# Altium footprint library PcbLib_Motorsturing.PcbLib: 9 footprints
Each footprint in its own frame and in the unit in brackets; x right, y up, seen from the top. Pads: shape width x height; smd on the part's side, far side on the other; paste and mask are expansions set on the pad; w line width, h text height; cw(c..) or ccw(c..) is an arc to the next point about the centre after c.
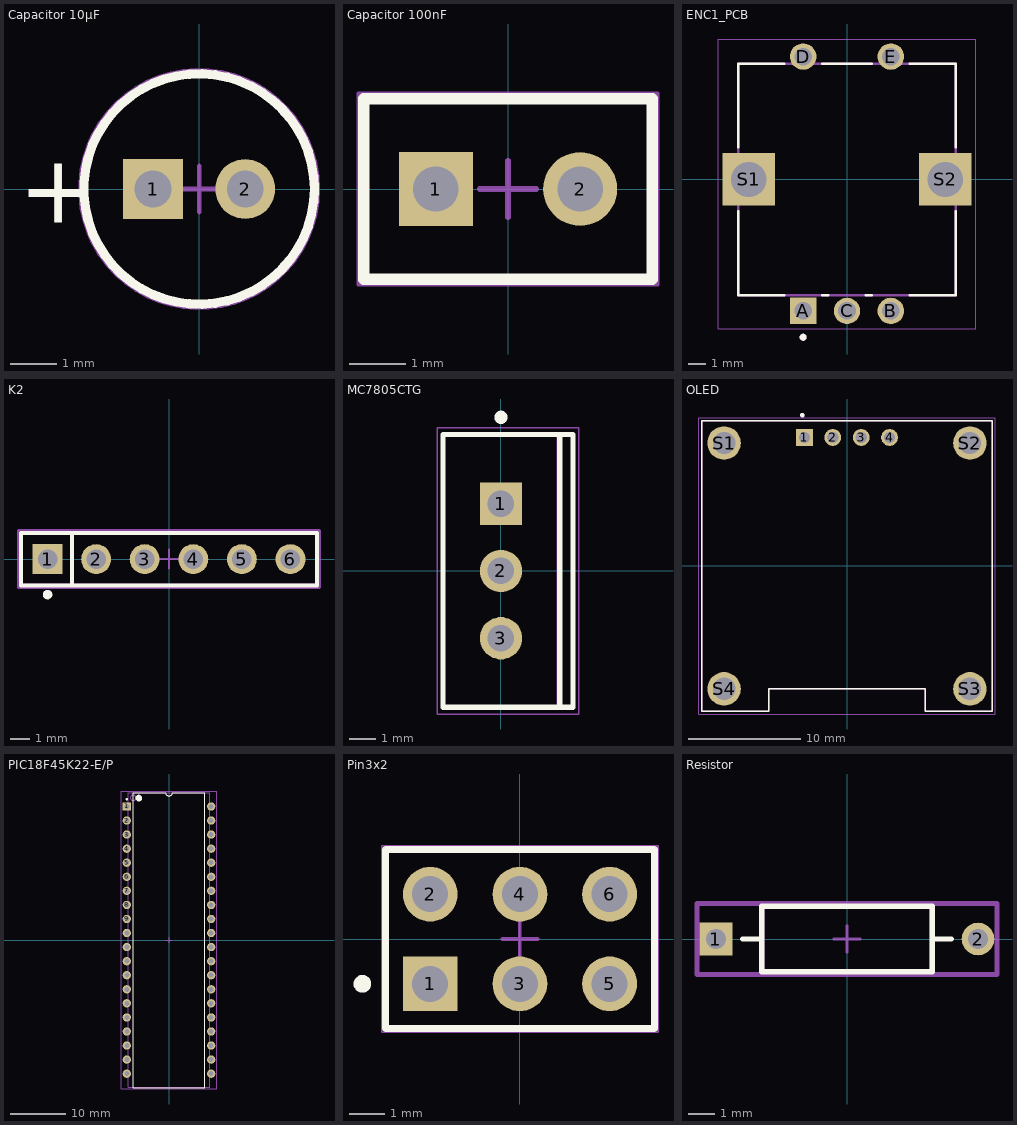
[diagram p0: the footprints below, top view; thin cyan lines are the x and y axes]

## Capacitor 10µF [mm] "THD, 2-Leads, Dia 5mm, Body Length 11mm"
height 12
pads (2):
  rect 1.3x1.3 hole 0.8: 1(-1,0)
  round 1.3 hole 0.8: 2(1,0)
Top Overlay:
  circle w0.2: c0,0 r2.5
  text "+" at -3.908,-0.737 h1.5
Mechanical 13:
  circle w0.1: c0,0 r2.5
Mechanical 15:
  circle w0.05: c0,0 r2.6
  lines w0.1: -0.5,0 0.5,0 ; 0,-0.5 0,0.5
3D body: height 12, standoff 0, extent -2.499,-2.499 2.499,2.499

## Capacitor 100nF [mm] "THD, 2-Leads, Body 5.08x3.18mm"
height 7.36
pads (2):
  rect 1.3x1.3 hole 0.8: 1(-1.27,0)
  round 1.3 hole 0.8: 2(1.27,0)
Top Overlay:
  lines w0.2: -2.54,-1.59 -2.54,1.59 2.54,1.59 2.54,-1.59 -2.54,-1.59
Mechanical 13:
  lines w0.1: -2.54,-1.59 2.54,-1.59 2.54,1.59 -2.54,1.59 -2.54,-1.59
Mechanical 15:
  lines w0.05: -2.64,-1.69 -2.64,1.69 2.64,1.69 2.64,-1.69 -2.64,-1.69
  lines w0.1: -0.5,0 0.5,0 ; 0,-0.5 0,0.5
3D body: height 7.36, standoff 0, extent -2.54,-1.59 2.54,1.59
3D body: height 6, standoff -1, extent -1.567,-0.299 -0.97,0.3
3D body: height 6, standoff -1, extent 0.973,-0.299 1.57,0.3

## ENC1_PCB [mm]
pads (7):
  rect 1.508x1.508 hole 1: A(-2.5,-7.5)
  round 1.508 hole 1: B(2.5,-7.5) C(0,-7.5) D(-2.5,7) E(2.5,7)
  rect 3x3 hole 2: S1(-5.6,0) S2(5.6,0)
Top Overlay:
  circle w0.2: c-2.5,-9 r0.1
  lines w0.127: -6.2,-1.82 -6.2,-6.6 -3.575,-6.6 ; -6.2,1.82 -6.2,6.6 -3.575,6.6 ; -1.425,-6.6 -1.075,-6.6 ; -1.425,6.6 1.425,6.6 ; 1.075,-6.6 1.425,-6.6 ; 3.575,-6.6 6.2,-6.6 6.2,-1.82 ; 3.575,6.6 6.2,6.6 6.2,1.82
Mechanical 1:
  lines w0: -6.6,-1.05 -4.6,-1.05 -4.6,1.05 -6.6,1.05 -6.6,-1.05 ; 4.6,-1.05 6.6,-1.05 6.6,1.05 4.6,1.05 4.6,-1.05
Mechanical 13:
  circle w0.2: c-2.5,-9 r0.1
  lines w0.127: -6.2,-6.6 6.2,-6.6 6.2,6.6 -6.2,6.6 -6.2,-6.6
Mechanical 15:
  lines w0.05: -7.35,-8.505 7.35,-8.505 7.35,8.005 -7.35,8.005 -7.35,-8.505

## K2 [mm]
pads (6):
  rect 1.57x1.57 hole 1.02 paste-2539.97 mask+0: 1(-6.35,0)
  round 1.57 hole 1.02 paste-2539.97 mask+0: 2(-3.81,0) 3(-1.27,0) 4(1.27,0) 5(3.81,0) 6(6.35,0)
Top Overlay:
  circle w0.25: c-6.35,-1.85 r0.125
  lines w0.2: -5.08,-1.37 -5.08,1.37 ; -7.745,-1.37 7.745,-1.37 7.745,1.37 -7.745,1.37 -7.745,-1.37
Top 3D Body:
  lines w0.2: -7.745,-1.37 7.745,-1.37 7.745,1.37 -7.745,1.37 -7.745,-1.37
Top Courtyard:
  lines w0.2: -7.845,-1.47 7.845,-1.47 7.845,1.47 -7.845,1.47 -7.845,-1.47
Top Assembly:
  lines w0.2: -7.845,-1.47 7.845,-1.47 7.845,1.47 -7.845,1.47 -7.845,-1.47
  text ".Designator" at 0,-0.001 h1
Top Component Center:
  lines w0.1: -0.5,0 0.5,0 ; 0,-0.5 0,0.5
3D body "Conn_Molex_22-28-4063_eec.STEP": height 0.25, standoff 0, extent -7.845,-1.47 7.845,1.47

## MC7805CTG [mm] "FM, 3-Leads, Body 10.3x4.85mm, Pitch 2.54mm"
height 19.68
pads (3):
  rect 1.6x1.6 hole 1: 1(0,2.54)
  round 1.6 hole 1: 2(0,0) 3(0,-2.54)
Top Overlay:
  circle w0.25: c0,5.8 r0.125
  lines w0.2: 2.215,-5.15 2.215,5.15 ; -2.185,-5.15 -2.185,5.15 2.715,5.15 2.715,-5.15 -2.185,-5.15
Mechanical 13:
  lines w0.1: 2.14,-5.15 2.14,5.15 ; -2.16,-5.15 2.69,-5.15 2.69,5.15 -2.16,5.15 -2.16,-5.15
Mechanical 15:
  lines w0.05: -2.41,-5.4 2.94,-5.4 2.94,5.4 -2.41,5.4 -2.41,-5.4
  lines w0.1: -0.5,0 0.5,0 ; 0,-0.5 0,0.5
3D body: height 19.68, standoff 18.71, extent 2.14,-4.975 2.69,4.975
3D body: height 17.24, standoff 16.88, extent 2.14,-4.975 2.69,-1.825
3D body: height 17.24, standoff 16.88, extent 2.14,1.825 2.69,4.975
3D body: height 16.88, standoff 16.52, extent 2.14,-4.975 2.69,-1.825
3D body: height 16.88, standoff 16.52, extent 2.14,1.825 2.69,4.975
3D body: height 17.58, standoff 17.24, extent 2.14,-4.975 2.69,-1.79
3D body: height 17.58, standoff 17.24, extent 2.14,1.79 2.69,4.975
3D body: height 16.53, standoff 16.18, extent 2.14,-4.975 2.69,-1.79
3D body: height 16.53, standoff 16.18, extent 2.14,1.79 2.69,4.975
3D body: height 17.9, standoff 17.58, extent 2.14,-4.975 2.69,-1.686
3D body: height 17.9, standoff 17.58, extent 2.14,1.686 2.69,4.975
3D body: height 16.19, standoff 15.87, extent 2.14,-4.975 2.69,-1.686
3D body: height 16.19, standoff 15.87, extent 2.14,1.686 2.69,4.975
3D body: height 18.18, standoff 17.89, extent 2.14,-4.975 2.69,-1.517
3D body: height 18.18, standoff 17.89, extent 2.14,1.517 2.69,4.975
3D body: height 15.87, standoff 15.59, extent 2.14,-4.975 2.69,-1.517
3D body: height 15.87, standoff 15.59, extent 2.14,1.517 2.69,4.975
3D body: height 18.4, standoff 18.17, extent 2.14,-4.975 2.69,-1.29
3D body: height 18.4, standoff 18.17, extent 2.14,1.29 2.69,4.975
3D body: height 15.59, standoff 15.36, extent 2.14,-4.975 2.69,-1.29
3D body: height 15.59, standoff 15.36, extent 2.14,1.29 2.69,4.975
3D body: height 18.57, standoff 18.4, extent 2.14,-4.975 2.69,-1.014
3D body: height 18.57, standoff 18.4, extent 2.14,1.014 2.69,4.975
3D body: height 15.37, standoff 15.19, extent 2.14,-4.975 2.69,-1.014
3D body: height 15.37, standoff 15.19, extent 2.14,1.014 2.69,4.975
3D body: height 18.67, standoff 18.57, extent 2.14,-4.975 2.69,-0.698
3D body: height 18.67, standoff 18.57, extent 2.14,0.698 2.69,4.975
3D body: height 15.2, standoff 15.09, extent 2.14,-4.975 2.69,-0.698
3D body: height 15.2, standoff 15.09, extent 2.14,0.698 2.69,4.975
3D body: height 18.71, standoff 18.67, extent 2.14,-4.975 2.69,-0.356
3D body: height 18.71, standoff 18.67, extent 2.14,0.356 2.69,4.975
3D body: height 15.1, standoff 15.06, extent 2.14,-4.975 2.69,-0.356
3D body: height 15.1, standoff 15.06, extent 2.14,0.356 2.69,4.975
3D body: height 15.06, standoff 13.48, extent 2.14,-4.975 2.69,4.975
3D body: height 13.48, standoff 2.8, extent -2.16,-5.15 2.69,5.15
3D body: height 0, standoff -1.6, extent -0.275,-2.92 0.275,-2.16
3D body: height 2.8, standoff 0, extent -0.275,-3.21 0.275,-1.87
3D body: height 0, standoff -1.6, extent -0.275,-0.38 0.275,0.38
3D body: height 2.8, standoff 0, extent -0.275,-0.67 0.275,0.67
3D body: height 0, standoff -1.6, extent -0.275,2.16 0.275,2.92
3D body: height 2.8, standoff 0, extent -0.275,1.87 0.275,3.21

## OLED [mm] "MODULE_DM-OLED096-636"
height 11.3
pads (8):
  rect 1.508x1.508 / inner round 1.508 / far side rect 1.508x1.508 hole 1: 1(-3.81,11.5)
  round 1.508 hole 1: 2(-1.27,11.5) 3(1.27,11.5) 4(3.81,11.5)
  round 3 hole 2: S1(-11,11) S2(11,11) S3(11,-11) S4(-11,-11)
Top Overlay:
  circle w0.2: c-4,13.5 r0.1
  lines w0.127: -13,-13 -7,-13 -7,-11 7,-11 7,-13 13,-13 13,13 -13,13 -13,-13
Mechanical 13:
  circle w0.2: c-4,13.5 r0.1
  lines w0.127: -13,-13 -7,-13 -7,-11 7,-11 7,-13 13,-13 13,13 -13,13 -13,-13
Mechanical 15:
  lines w0.05: -13.25,-13.25 13.25,-13.25 13.25,13.25 -13.25,13.25 -13.25,-13.25
3D body "step_temp.STEP": height 5.66, standoff -5.64, extent -13,-13 13,13

## PIC18F45K22-E/P [mm] "PDIP, 40-Leads, Body 51.75x13.53mm, Pitch 2.54mm"
height 6.35
pads (40):
  rect 1.5x1.5 hole 0.9: 1(-7.62,24.13)
  round 1.5 hole 0.9: 2(-7.62,21.59) 3(-7.62,19.05) 4(-7.62,16.51) 5(-7.62,13.97) 6(-7.62,11.43) 7(-7.62,8.89) 8(-7.62,6.35) 9(-7.62,3.81) 10(-7.62,1.27) 11(-7.62,-1.27) 12(-7.62,-3.81) 13(-7.62,-6.35) 14(-7.62,-8.89) 15(-7.62,-11.43) 16(-7.62,-13.97) 17(-7.62,-16.51) 18(-7.62,-19.05) 19(-7.62,-21.59) 20(-7.62,-24.13) 21(7.62,-24.13) 22(7.62,-21.59) 23(7.62,-19.05) 24(7.62,-16.51) 25(7.62,-13.97) 26(7.62,-11.43) 27(7.62,-8.89) 28(7.62,-6.35) 29(7.62,-3.81) 30(7.62,-1.27) 31(7.62,1.27) 32(7.62,3.81) 33(7.62,6.35) 34(7.62,8.89) 35(7.62,11.43) 36(7.62,13.97) 37(7.62,16.51) 38(7.62,19.05) 39(7.62,21.59) 40(7.62,24.13)
Top Overlay:
  circle w0.6: c-5.45,25.65 r0.3
  circle w0.25: c-7.62,25.43 r0.125
  lines w0.2: -6.45,-26.65 6.45,-26.65 6.45,26.65 0.635,26.65 cw(c0,26.65) -0.635,26.65 -6.45,26.65 -6.45,-26.65
Mechanical 13:
  circle w0.1: c-6.475,25.7 r0.5
  lines w0.1: -7.375,-26.6 7.375,-26.6 7.375,26.6 -7.375,26.6 -7.375,-26.6
Mechanical 15:
  lines w0.05: -8.65,-26.9 8.65,-26.9 8.65,26.9 -8.65,26.9 -8.65,-26.9
  lines w0.1: -0.5,0 0.5,0 ; 0,-0.5 0,0.5
3D body: height 6.35, standoff 0.38, extent -7.375,-26.6 7.375,26.6
3D body: height 0, standoff -1.6, extent 7.485,23.77 7.755,24.49
3D body: height 3.51, standoff 3.23, extent 7.375,23.63 7.755,24.63
3D body: height 3.24, standoff 0, extent 7.485,23.63 7.755,24.63
3D body: height 0, standoff -1.6, extent 7.485,21.23 7.755,21.95
3D body: height 3.51, standoff 3.23, extent 7.375,21.09 7.755,22.09
3D body: height 3.24, standoff 0, extent 7.485,21.09 7.755,22.09
3D body: height 0, standoff -1.6, extent 7.485,18.69 7.755,19.41
3D body: height 3.51, standoff 3.23, extent 7.375,18.55 7.755,19.55
3D body: height 3.24, standoff 0, extent 7.485,18.55 7.755,19.55
3D body: height 0, standoff -1.6, extent 7.485,16.15 7.755,16.87
3D body: height 3.51, standoff 3.23, extent 7.375,16.01 7.755,17.01
3D body: height 3.24, standoff 0, extent 7.485,16.01 7.755,17.01
3D body: height 0, standoff -1.6, extent 7.485,13.61 7.755,14.33
3D body: height 3.51, standoff 3.23, extent 7.375,13.47 7.755,14.47
3D body: height 3.24, standoff 0, extent 7.485,13.47 7.755,14.47
3D body: height 0, standoff -1.6, extent 7.485,11.07 7.755,11.79
3D body: height 3.51, standoff 3.23, extent 7.375,10.93 7.755,11.93
3D body: height 3.24, standoff 0, extent 7.485,10.93 7.755,11.93
3D body: height 0, standoff -1.6, extent 7.485,8.53 7.755,9.25
3D body: height 3.51, standoff 3.23, extent 7.375,8.39 7.755,9.39
3D body: height 3.24, standoff 0, extent 7.485,8.39 7.755,9.39
3D body: height 0, standoff -1.6, extent 7.485,5.99 7.755,6.71
3D body: height 3.51, standoff 3.23, extent 7.375,5.85 7.755,6.85
3D body: height 3.24, standoff 0, extent 7.485,5.85 7.755,6.85
3D body: height 0, standoff -1.6, extent 7.485,3.45 7.755,4.17
3D body: height 3.51, standoff 3.23, extent 7.375,3.31 7.755,4.31
3D body: height 3.24, standoff 0, extent 7.485,3.31 7.755,4.31
3D body: height 0, standoff -1.6, extent 7.485,0.91 7.755,1.63
3D body: height 3.51, standoff 3.23, extent 7.375,0.77 7.755,1.77
3D body: height 3.24, standoff 0, extent 7.485,0.77 7.755,1.77
3D body: height 0, standoff -1.6, extent 7.485,-1.63 7.755,-0.91
3D body: height 3.51, standoff 3.23, extent 7.375,-1.77 7.755,-0.77
3D body: height 3.24, standoff 0, extent 7.485,-1.77 7.755,-0.77
3D body: height 0, standoff -1.6, extent 7.485,-4.17 7.755,-3.45
3D body: height 3.51, standoff 3.23, extent 7.375,-4.31 7.755,-3.31
3D body: height 3.24, standoff 0, extent 7.485,-4.31 7.755,-3.31
3D body: height 0, standoff -1.6, extent 7.485,-6.71 7.755,-5.99
3D body: height 3.51, standoff 3.23, extent 7.375,-6.85 7.755,-5.85
3D body: height 3.24, standoff 0, extent 7.485,-6.85 7.755,-5.85
3D body: height 0, standoff -1.6, extent 7.485,-9.25 7.755,-8.53
3D body: height 3.51, standoff 3.23, extent 7.375,-9.39 7.755,-8.39
3D body: height 3.24, standoff 0, extent 7.485,-9.39 7.755,-8.39
3D body: height 0, standoff -1.6, extent 7.485,-11.79 7.755,-11.07
3D body: height 3.51, standoff 3.23, extent 7.375,-11.93 7.755,-10.93
3D body: height 3.24, standoff 0, extent 7.485,-11.93 7.755,-10.93
3D body: height 0, standoff -1.6, extent 7.485,-14.33 7.755,-13.61
3D body: height 3.51, standoff 3.23, extent 7.375,-14.47 7.755,-13.47
3D body: height 3.24, standoff 0, extent 7.485,-14.47 7.755,-13.47
3D body: height 0, standoff -1.6, extent 7.485,-16.87 7.755,-16.15
3D body: height 3.51, standoff 3.23, extent 7.375,-17.01 7.755,-16.01
3D body: height 3.24, standoff 0, extent 7.485,-17.01 7.755,-16.01
3D body: height 0, standoff -1.6, extent 7.485,-19.41 7.755,-18.69
3D body: height 3.51, standoff 3.23, extent 7.375,-19.55 7.755,-18.55
3D body: height 3.24, standoff 0, extent 7.485,-19.55 7.755,-18.55
3D body: height 0, standoff -1.6, extent 7.485,-21.95 7.755,-21.23
3D body: height 3.51, standoff 3.23, extent 7.375,-22.09 7.755,-21.09
3D body: height 3.24, standoff 0, extent 7.485,-22.09 7.755,-21.09
3D body: height 0, standoff -1.6, extent 7.485,-24.49 7.755,-23.77
3D body: height 3.51, standoff 3.23, extent 7.375,-24.63 7.755,-23.63
3D body: height 3.24, standoff 0, extent 7.485,-24.63 7.755,-23.63
3D body: height 0, standoff -1.6, extent -7.755,-24.49 -7.485,-23.77
3D body: height 3.51, standoff 3.23, extent -7.755,-24.63 -7.375,-23.63
3D body: height 3.24, standoff 0, extent -7.755,-24.63 -7.485,-23.63
3D body: height 0, standoff -1.6, extent -7.755,-21.95 -7.485,-21.23
3D body: height 3.51, standoff 3.23, extent -7.755,-22.09 -7.375,-21.09
3D body: height 3.24, standoff 0, extent -7.755,-22.09 -7.485,-21.09
3D body: height 0, standoff -1.6, extent -7.755,-19.41 -7.485,-18.69
3D body: height 3.51, standoff 3.23, extent -7.755,-19.55 -7.375,-18.55
3D body: height 3.24, standoff 0, extent -7.755,-19.55 -7.485,-18.55
3D body: height 0, standoff -1.6, extent -7.755,-16.87 -7.485,-16.15
3D body: height 3.51, standoff 3.23, extent -7.755,-17.01 -7.375,-16.01
3D body: height 3.24, standoff 0, extent -7.755,-17.01 -7.485,-16.01
3D body: height 0, standoff -1.6, extent -7.755,-14.33 -7.485,-13.61
3D body: height 3.51, standoff 3.23, extent -7.755,-14.47 -7.375,-13.47
3D body: height 3.24, standoff 0, extent -7.755,-14.47 -7.485,-13.47
3D body: height 0, standoff -1.6, extent -7.755,-11.79 -7.485,-11.07
3D body: height 3.51, standoff 3.23, extent -7.755,-11.93 -7.375,-10.93
3D body: height 3.24, standoff 0, extent -7.755,-11.93 -7.485,-10.93
3D body: height 0, standoff -1.6, extent -7.755,-9.25 -7.485,-8.53
3D body: height 3.51, standoff 3.23, extent -7.755,-9.39 -7.375,-8.39
3D body: height 3.24, standoff 0, extent -7.755,-9.39 -7.485,-8.39
3D body: height 0, standoff -1.6, extent -7.755,-6.71 -7.485,-5.99
3D body: height 3.51, standoff 3.23, extent -7.755,-6.85 -7.375,-5.85
3D body: height 3.24, standoff 0, extent -7.755,-6.85 -7.485,-5.85
3D body: height 0, standoff -1.6, extent -7.755,-4.17 -7.485,-3.45
3D body: height 3.51, standoff 3.23, extent -7.755,-4.31 -7.375,-3.31
3D body: height 3.24, standoff 0, extent -7.755,-4.31 -7.485,-3.31
3D body: height 0, standoff -1.6, extent -7.755,-1.63 -7.485,-0.91
3D body: height 3.51, standoff 3.23, extent -7.755,-1.77 -7.375,-0.77
3D body: height 3.24, standoff 0, extent -7.755,-1.77 -7.485,-0.77
3D body: height 0, standoff -1.6, extent -7.755,0.91 -7.485,1.63
3D body: height 3.51, standoff 3.23, extent -7.755,0.77 -7.375,1.77
3D body: height 3.24, standoff 0, extent -7.755,0.77 -7.485,1.77
3D body: height 0, standoff -1.6, extent -7.755,3.45 -7.485,4.17
3D body: height 3.51, standoff 3.23, extent -7.755,3.31 -7.375,4.31
3D body: height 3.24, standoff 0, extent -7.755,3.31 -7.485,4.31
3D body: height 0, standoff -1.6, extent -7.755,5.99 -7.485,6.71
3D body: height 3.51, standoff 3.23, extent -7.755,5.85 -7.375,6.85
3D body: height 3.24, standoff 0, extent -7.755,5.85 -7.485,6.85
3D body: height 0, standoff -1.6, extent -7.755,8.53 -7.485,9.25
3D body: height 3.51, standoff 3.23, extent -7.755,8.39 -7.375,9.39
3D body: height 3.24, standoff 0, extent -7.755,8.39 -7.485,9.39
3D body: height 0, standoff -1.6, extent -7.755,11.07 -7.485,11.79
3D body: height 3.51, standoff 3.23, extent -7.755,10.93 -7.375,11.93
3D body: height 3.24, standoff 0, extent -7.755,10.93 -7.485,11.93
3D body: height 0, standoff -1.6, extent -7.755,13.61 -7.485,14.33
3D body: height 3.51, standoff 3.23, extent -7.755,13.47 -7.375,14.47
3D body: height 3.24, standoff 0, extent -7.755,13.47 -7.485,14.47
3D body: height 0, standoff -1.6, extent -7.755,16.15 -7.485,16.87
3D body: height 3.51, standoff 3.23, extent -7.755,16.01 -7.375,17.01
3D body: height 3.24, standoff 0, extent -7.755,16.01 -7.485,17.01
3D body: height 0, standoff -1.6, extent -7.755,18.69 -7.485,19.41
3D body: height 3.51, standoff 3.23, extent -7.755,18.55 -7.375,19.55
3D body: height 3.24, standoff 0, extent -7.755,18.55 -7.485,19.55
3D body: height 0, standoff -1.6, extent -7.755,21.23 -7.485,21.95
3D body: height 3.51, standoff 3.23, extent -7.755,21.09 -7.375,22.09
3D body: height 3.24, standoff 0, extent -7.755,21.09 -7.485,22.09
3D body: height 0, standoff -1.6, extent -7.755,23.77 -7.485,24.49
3D body: height 3.51, standoff 3.23, extent -7.755,23.63 -7.375,24.63
3D body: height 3.24, standoff 0, extent -7.755,23.63 -7.485,24.63

## Pin3x2 [mm] "CONN, 6-Leads, Body 7.62x5.08mm, Pitch 2.54mm"
height 8.38
pads (6):
  rect 1.55x1.55 hole 1.02: 1(-2.54,-1.27)
  round 1.55 hole 1.02: 2(-2.54,1.27) 3(0,-1.27) 4(0,1.27) 5(2.54,-1.27) 6(2.54,1.27)
Top Overlay:
  circle w0.25: c-4.46,-1.27 r0.125
  lines w0.2: -3.81,-2.54 -3.81,2.54 3.81,2.54 3.81,-2.54 -3.81,-2.54
Mechanical 13:
  lines w0.1: -3.81,-2.54 -3.81,2.54 3.81,2.54 3.81,-2.54 -3.81,-2.54
Mechanical 15:
  lines w0.05: -3.91,-2.64 -3.91,2.64 3.91,2.64 3.91,-2.64 -3.91,-2.64
  lines w0.1: -0.5,0 0.5,0 ; 0,-0.5 0,0.5
3D body "TSW-103-08-L-D.stp": height 8.38, standoff -5.08, extent -3.81,-2.54 3.81,2.54

## Resistor [mm]
pads (2):
  rect 1.25x1.25 hole 0.75 paste-2539.97 mask+0: 1(-5,0)
  round 1.25 hole 0.75 paste-2539.97 mask+0: 2(5,0)
Top Overlay:
  lines w0.2: -3.975,0 -3.25,0 ; 3.25,0 3.975,0 ; -3.25,-1.25 3.25,-1.25 3.25,1.25 -3.25,1.25 -3.25,-1.25
Top 3D Body:
  lines w0.2: -3.25,-1.25 3.25,-1.25 3.25,1.25 -3.25,1.25 -3.25,-1.25
Top Courtyard:
  lines w0.2: -5.725,-1.35 5.725,-1.35 5.725,1.35 -5.725,1.35 -5.725,-1.35
Top Assembly:
  lines w0.2: -5.725,-1.35 5.725,-1.35 5.725,1.35 -5.725,1.35 -5.725,-1.35
  text ".Designator" at 0,0.188 h1
Top Component Center:
  lines w0.1: -0.5,0 0.5,0 ; 0,-0.5 0,0.5
3D body "Res_Vishay_MRS25000C1910FCT00_eec.STEP": height 0.25, standoff 0, extent -5.725,-1.35 5.725,1.35